# Altium footprint library DSG8-1600X900TP.PcbLib: 1 footprints
Each footprint in its own frame and in the unit in brackets; x right, y up, seen from the top. Pads: shape width x height; smd on the part's side, far side on the other; paste and mask are expansions set on the pad; w line width, h text height; cw(c..) or ccw(c..) is an arc to the next point about the centre after c.
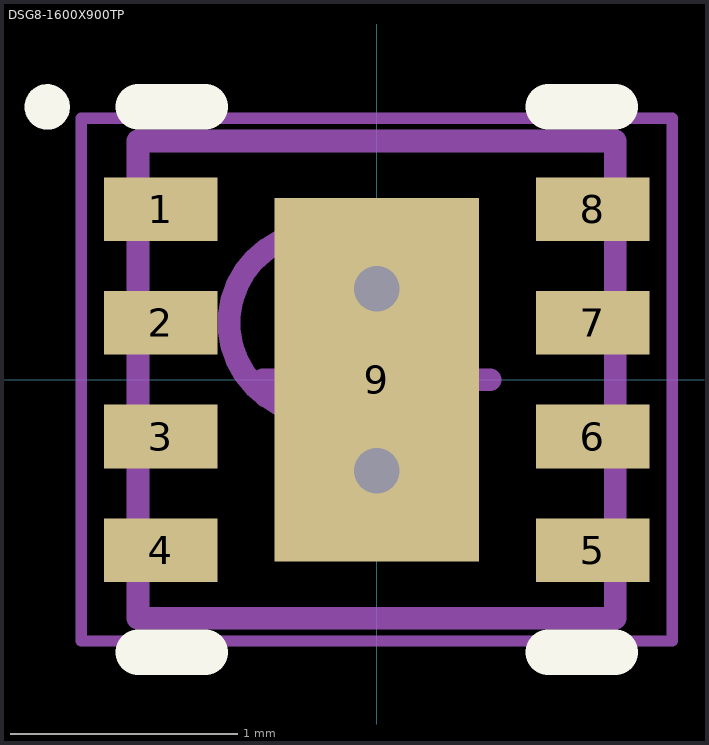
[diagram p0: the footprint, top view; thin cyan lines are the x and y axes]

## DSG8-1600X900TP [mm] "SON, 8-Leads, Body 2x2mm, Pitch 0.5mm, Thermal Pad 1.6x0.9mm, TI Recommended"
height 0.8
pads (9):
  rect 0.5x0.28 smd paste-0.14 mask+0.07: 1(-0.95,0.75) 2(-0.95,0.25) 3(-0.95,-0.25) 4(-0.95,-0.75) 5(0.95,-0.75) 6(0.95,-0.25) 7(0.95,0.25) 8(0.95,0.75)
  rect 0.9x1.6 smd paste-0.45 mask+0.07: 9(0,0)
via 0,-0.4 diameter 0.5 hole 0.2
via 0,0.4 diameter 0.5 hole 0.2
Top Overlay:
  circle w0.1: c-1.45,1.2 r0.05
  lines w0.2: -1.05,-1.2 -0.755,-1.2 ; -1.05,1.2 -0.755,1.2 ; 0.755,-1.2 1.05,-1.2 ; 0.755,1.2 1.05,1.2
Top Paste:
  rectangle: 0.7,0.625 1.2,0.875
  rectangle: 0.7,0.125 1.2,0.375
  rectangle: 0.7,-0.375 1.2,-0.125
  rectangle: 0.7,-0.875 1.2,-0.625
  rectangle: -1.2,-0.875 -0.7,-0.625
  rectangle: -1.2,-0.375 -0.7,-0.125
  rectangle: -1.2,0.625 -0.7,0.875
  rectangle: -0.35,-0.65 0.35,0.65
  rectangle: -1.2,0.125 -0.7,0.375
Mechanical 13:
  circle w0.1: c-0.25,0.25 r0.4
  lines w0.1: -1.05,-1.05 -1.05,1.05 1.05,1.05 1.05,-1.05 -1.05,-1.05
Mechanical 15:
  lines w0.05: -1.3,-1.15 -1.3,1.15 1.3,1.15 1.3,-1.15 -1.3,-1.15
  lines w0.1: -0.5,0 0.5,0 ; 0,-0.5 0,0.5
3D body: height 0.8, standoff 0, extent -1.05,-1.05 1.05,1.05